# Altium schematic symbol library AD854x.SchLib: 1 symbol
Pins are listed as number, name and electrical type; pins without a type are passive.

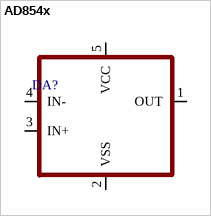
[diagram p0: symbol AD854x]

## AD854x
designator DA?
pins: 1 OUT, 2 VSS, 3 IN+, 4 IN-, 5 VCC